# Altium schematic symbol library 3.3nF 50V cap cer TH.SchLib: 1 symbol
Pins are listed as number, name and electrical type; pins without a type are passive.

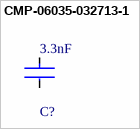
[diagram p0: symbol CMP-06035-032713-1]

## CMP-06035-032713-1
designator C?, comment 3.3nF
Cap Ceramic 3.3nF 50V C0G ±5% Radial 5mm +125°C Automotive Bulk; Lead Diameter: 0.5mm; Lead/Base Style: Formed Leads; Voltage Rating (DC): 50V; Dielectric: C0G; Capacitance: 3.3nF; Mount: Through Hole; Width: 0.098inch; Max Operating Temperature: 125°C; Height - Seated (Max): 0.138inch; Packaging: Tape and Reel; Package Quantity: 2000; Case/Package: Radial; Tolerance: 5%; Voltage Rating: 50V; Termination: Radial; Length: 0.142inch; Ratings: AEC-Q200; Lead Pitch: 0.197inch; Min Operating Temperature: -55°C; Height: 3.5mm; Resistor Type: Ceramic
footprint FP-RCE0K1-MFG
pins: 1, 2